# Altium integrated library NSC Amplifier.IntLib: 719 symbols (part 1 of 19)
Pins are listed as number, name and electrical type; pins without a type are passive.

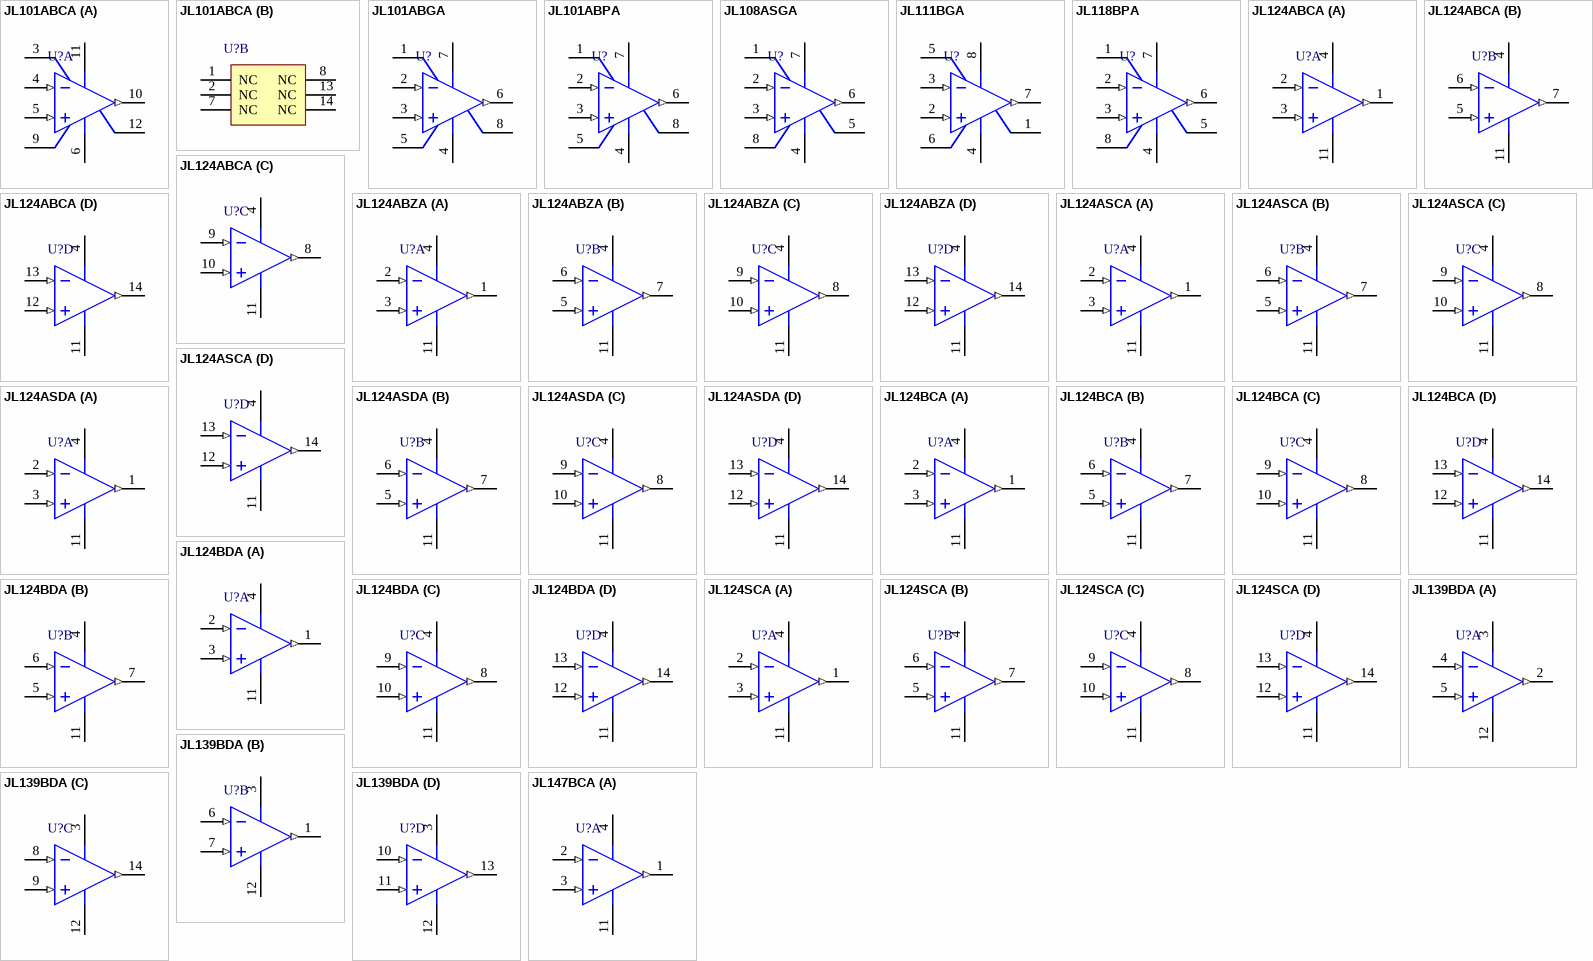
[diagram p0: symbols JL101ABCA to JL147BCA]

## JL101ABCA
designator U?
Operational Amplifier; PartNumber: JL101ABCA; Manufacturer: National Semiconductor; CompType: Amplifiers; PackageTopMarking: NS ZSSXXYYA*JM38510/10103BCA*27014 Q; Published: 4-Dec-2008; DatasheetVersion: Aug-2000; PackageVersion: revJ, Jul-2002; PackageReference: J14A; Publisher: Altium Limited; PackageDescription: Cerdip, .400 x .310in Body, 14 Lead, .300in Centers, .100in Pitch; RoHS: N; PinCount: 14; ComponentLink1Description: LM101A Datasheet; ComponentLink1URL: http://www.national.com/ds/LM/LM101A.pdf; ComponentLink2Description: LM101A Web Page; ComponentLink2URL: http://www.national.com/pf/LM/LM101A.html; ComponentLink3Description: J14A Package Page; ComponentLink3URL: http://www.national.com/packaging/folders/j14a.html
footprint J14A (DIP, 14-Leads, Row Spacing 7.62mm, Pitch 2.54mm, Body 19.56x6.73mm)
part A pins: 3 BAL/COMP, 4 IN- (in), 5 IN+ (in), 6 V- (power), 9 BAL, 10 OUT (out), 11 V+ (power), 12 COMP
part B pins: 1 NC, 2 NC, 7 NC, 8 NC, 13 NC, 14 NC

## JL101ABGA
designator U?
Operational Amplifier; PartNumber: JL101ABGA; Manufacturer: National Semiconductor; CompType: Amplifiers; PackageTopMarking: NS ZSSXXYYA 27014 Q*JM38510/10103BGA; Published: 4-Dec-2008; DatasheetVersion: Aug-2000; PackageVersion: revF, Jun-1995; PackageReference: H08C; Publisher: Altium Limited; PackageDescription: Metal Can, TO-99, 8 Lead, .200 Dia., P.C.; RoHS: N; PinCount: 8; Code_JEDEC: TO-99; ComponentLink1Description: LM101A Datasheet; ComponentLink1URL: http://www.national.com/ds/LM/LM101A.pdf; ComponentLink2Description: LM101A Web Page; ComponentLink2URL: http://www.national.com/pf/LM/LM101A.html; ComponentLink3Description: H08C Package Page; ComponentLink3URL: http://www.national.com/packaging/folders/h08c.html
footprint H08C (Can; 8 Leads; Pin Circle Dia. 5.08 mm; Lead Dia. 0.48 mm (max))
pins: 1 BAL/COMP, 2 IN- (in), 3 IN+ (in), 4 V- (power), 5 BAL, 6 OUT (out), 7 V+ (power), 8 COMP

## JL101ABPA
designator U?
Operational Amplifier; PartNumber: JL101ABPA; Manufacturer: National Semiconductor; CompType: Amplifiers; PackageTopMarking: NS JM38510*/10103BPA*27014 Q*ZSSXXYYA; Published: 4-Dec-2008; DatasheetVersion: Aug-2000; PackageVersion: revM, Jul-2002; PackageReference: J08A; Publisher: Altium Limited; PackageDescription: Cerdip, .400 x .310in Body, 8 Lead, .300in Centers, .100in Pitch; RoHS: N; PinCount: 8; ComponentLink1Description: LM101A Datasheet; ComponentLink1URL: http://www.national.com/ds/LM/LM101A.pdf; ComponentLink2Description: LM101A Web Page; ComponentLink2URL: http://www.national.com/pf/LM/LM101A.html; ComponentLink3Description: J08A Package Page; ComponentLink3URL: http://www.national.com/packaging/folders/j08a.html
footprint J08A (DIP, 8-Leads, Row Spacing 7.62mm, Pitch 2.54mm, Body 9.78x6.73mm)
pins: 1 BAL/COMP, 2 IN- (in), 3 IN+ (in), 4 V- (power), 5 BAL, 6 OUT (out), 7 V+ (power), 8 COMP

## JL108ASGA
designator U?
Operational Amplifiers; PartNumber: JL108ASGA; Manufacturer: National Semiconductor; PackageTopMarking: NS ZSSXXYYA 27014 Q*JM38510/10104SGA; Published: 4-Dec-2008; DatasheetVersion: May-1989; PackageVersion: revF, Jun-1995; PackageReference: H08C; Publisher: Altium Limited; PackageDescription: Metal Can, TO-99, 8 Lead, .200 Dia., P.C.; CompType: Amplifiers; RoHS: N; PinCount: 8; Code_JEDEC: TO-99; ComponentLink1Description: LM108A Datasheet; ComponentLink1URL: http://www.national.com/ds/LM/LM108A.pdf; ComponentLink2Description: LM108A Web Page; ComponentLink2URL: http://www.national.com/pf/LM/LM108A.html; ComponentLink3Description: H08C Package Page; ComponentLink3URL: http://www.national.com/packaging/folders/h08c.html
footprint H08C (Can; 8 Leads; Pin Circle Dia. 5.08 mm; Lead Dia. 0.48 mm (max))
pins: 1 COMP1, 2 IN- (in), 3 IN+ (in), 4 V- (power), 5 NC, 6 OUT (out), 7 V+ (power), 8 COMP2

## JL111BGA
designator U?
Voltage Comparator; PartNumber: JL111BGA; Manufacturer: National Semiconductor; CompType: Amplifiers; PackageTopMarking: NS ZSSXXYYA 27014 Q*JM38510/10304BGA; Published: 4-Dec-2008; DatasheetVersion: Jan-2001; PackageVersion: revF, Jun-1995; PackageReference: H08C; Publisher: Altium Limited; PackageDescription: Metal Can, TO-99, 8 Lead, .200 Dia., P.C.; RoHS: N; PinCount: 8; Code_JEDEC: TO-99; ComponentLink1Description: LM111 Datasheet; ComponentLink1URL: http://www.national.com/ds/LM/LM111.pdf; ComponentLink2Description: LM111 Web Page; ComponentLink2URL: http://www.national.com/pf/LM/LM111.html; ComponentLink3Description: H08C Package Page; ComponentLink3URL: http://www.national.com/packaging/folders/h08c.html
footprint H08C (Can; 8 Leads; Pin Circle Dia. 5.08 mm; Lead Dia. 0.48 mm (max))
pins: 1 GND (power), 2 IN+ (in), 3 IN- (in), 4 V- (power), 5 BAL, 6 BAL/STB, 7 OUT (out), 8 V+ (power)

## JL118BPA
designator U?
Operational Amplifier; PartNumber: JL118BPA; Manufacturer: National Semiconductor; CompType: Amplifiers; PackageTopMarking: NS JM38510*/10107BPA*27014 Q*ZSSXXYYA; Published: 4-Dec-2008; DatasheetVersion: Aug-2000; PackageVersion: revM, Jul-2002; PackageReference: J08A; Publisher: Altium Limited; PackageDescription: Cerdip, .400 x .310in Body, 8 Lead, .300in Centers, .100in Pitch; RoHS: N; PinCount: 8; ComponentLink1Description: LM118 Datasheet; ComponentLink1URL: http://www.national.com/ds/LM/LM118.pdf; ComponentLink2Description: LM118 Web Page; ComponentLink2URL: http://www.national.com/pf/LM/LM118.html; ComponentLink3Description: J08A Package Page; ComponentLink3URL: http://www.national.com/packaging/folders/j08a.html
footprint J08A (DIP, 8-Leads, Row Spacing 7.62mm, Pitch 2.54mm, Body 9.78x6.73mm)
pins: 1 BAL/COMP1, 2 IN- (in), 3 IN+ (in), 4 V- (power), 5 BAL/COMP3, 6 OUT (out), 7 V+ (power), 8 COMP2

## JL124ABCA
designator U?
Low Power Quad Operational Amplifier; PartNumber: JL124ABCA; Manufacturer: National Semiconductor; CompType: Amplifiers; PackageTopMarking: NS ZSSXXYYA*JM38510/11006BCA*27014 Q; Published: 4-Dec-2008; DatasheetVersion: Aug-2000; PackageVersion: revJ, Jul-2002; PackageReference: J14A; Publisher: Altium Limited; PackageDescription: Cerdip, .400 x .310in Body, 14 Lead, .300in Centers, .100in Pitch; RoHS: N; PinCount: 14; ComponentLink1Description: LM124 Datasheet; ComponentLink1URL: http://www.national.com/ds/LM/LM124.pdf; ComponentLink2Description: LM124 Web Page; ComponentLink2URL: http://www.national.com/pf/LM/LM124.html; ComponentLink3Description: J14A Package Page; ComponentLink3URL: http://www.national.com/packaging/folders/j14a.html
footprint J14A (DIP, 14-Leads, Row Spacing 7.62mm, Pitch 2.54mm, Body 19.56x6.73mm)
pins on every part: 4 V+ (power), 11 GND (power)
part A pins: 1 OUT1 (out), 2 IN1- (in), 3 IN1+ (in)
part B pins: 5 IN2+ (in), 6 IN2- (in), 7 OUT2 (out)
part C pins: 8 OUT3 (out), 9 IN3- (in), 10 IN3+ (in)
part D pins: 12 IN4+ (in), 13 IN4- (in), 14 OUT4 (out)

## JL124ABZA
designator U?
Low Power Quad Operational Amplifier; PartNumber: JL124ABZA; Manufacturer: National Semiconductor; CompType: Amplifiers; PackageTopMarking: NSZSSXXYYA*JM38510/*11006BZA*27014 Q; Published: 4-Dec-2008; DatasheetVersion: Aug-2000; PackageVersion: revD, Jul-2007; PackageReference: WG14A; Publisher: Altium Limited; PackageDescription: Cerpack, .390 x .250 x .070in, 14 Lead, .050in Pitch, Gull Wing; RoHS: N; PinCount: 14; ComponentLink1Description: LM124 Datasheet; ComponentLink1URL: http://www.national.com/ds/LM/LM124.pdf; ComponentLink2Description: LM124 Web Page; ComponentLink2URL: http://www.national.com/pf/LM/LM124.html; ComponentLink3Description: WG14A Package Page; ComponentLink3URL: http://www.national.com/packaging/folders/wg14a.html
footprint WG14A_N (CERPACK, 14-Leads, Body 9.9x6.5mm, Pitch 1.27mm, IPC Medium Density)
footprint WG14A_L (CERPACK, 14-Leads, Body 9.9x6.5mm, Pitch 1.27mm, IPC High Density)
footprint WG14A_M (CERPACK, 14-Leads, Body 9.9x6.5mm, Pitch 1.27mm, IPC Low Density)
pins on every part: 4 V+ (power), 11 GND (power)
part A pins: 1 OUT1 (out), 2 IN1- (in), 3 IN1+ (in)
part B pins: 5 IN2+ (in), 6 IN2- (in), 7 OUT2 (out)
part C pins: 8 OUT3 (out), 9 IN3- (in), 10 IN3+ (in)
part D pins: 12 IN4+ (in), 13 IN4- (in), 14 OUT4 (out)

## JL124ASCA
designator U?
Low Power Quad Operational Amplifier; PartNumber: JL124ASCA; Manufacturer: National Semiconductor; CompType: Amplifiers; PackageTopMarking: NSZSSXXYYA*JM38510/11006SCA*27014 Q; Published: 4-Dec-2008; DatasheetVersion: Aug-2000; PackageVersion: revJ, Jul-2002; PackageReference: J14A; Publisher: Altium Limited; PackageDescription: Cerdip, .400 x .310in Body, 14 Lead, .300in Centers, .100in Pitch; RoHS: N; PinCount: 14; ComponentLink1Description: LM124 Datasheet; ComponentLink1URL: http://www.national.com/ds/LM/LM124.pdf; ComponentLink2Description: LM124 Web Page; ComponentLink2URL: http://www.national.com/pf/LM/LM124.html; ComponentLink3Description: J14A Package Page; ComponentLink3URL: http://www.national.com/packaging/folders/j14a.html
footprint J14A (DIP, 14-Leads, Row Spacing 7.62mm, Pitch 2.54mm, Body 19.56x6.73mm)
pins on every part: 4 V+ (power), 11 GND (power)
part A pins: 1 OUT1 (out), 2 IN1- (in), 3 IN1+ (in)
part B pins: 5 IN2+ (in), 6 IN2- (in), 7 OUT2 (out)
part C pins: 8 OUT3 (out), 9 IN3- (in), 10 IN3+ (in)
part D pins: 12 IN4+ (in), 13 IN4- (in), 14 OUT4 (out)

## JL124ASDA
designator U?
Low Power Quad Operational Amplifier; PartNumber: JL124ASDA; Manufacturer: National Semiconductor; CompType: Amplifiers; PackageTopMarking: NSZSSXXYYA*JM38510/*11006SDA*27014 Q; Published: 4-Dec-2008; DatasheetVersion: Aug-2000; PackageVersion: revP, Jun-2004; PackageReference: W14B; Publisher: Altium Limited; PackageDescription: Cerpack, .390 x .250 x .070in Body, 14 Lead, .050in Pitch; RoHS: N; PinCount: 14; Code_JEDEC: MO-092-AB; ComponentLink1Description: LM124 Datasheet; ComponentLink1URL: http://www.national.com/ds/LM/LM124.pdf; ComponentLink2Description: LM124 Web Page; ComponentLink2URL: http://www.national.com/pf/LM/LM124.html; ComponentLink3Description: W14B Package Page; ComponentLink3URL: http://www.national.com/packaging/folders/w14b.html
footprint W14B (DFP; 14 Leads; Body 9.8 x 7.1 mm (LxW max); Pitch 1.27 mm)
pins on every part: 4 V+ (power), 11 GND (power)
part A pins: 1 OUT1 (out), 2 IN1- (in), 3 IN1+ (in)
part B pins: 5 IN2+ (in), 6 IN2- (in), 7 OUT2 (out)
part C pins: 8 OUT3 (out), 9 IN3- (in), 10 IN3+ (in)
part D pins: 12 IN4+ (in), 13 IN4- (in), 14 OUT4 (out)

## JL124BCA
designator U?
Low Power Quad Operational Amplifier; PartNumber: JL124BCA; Manufacturer: National Semiconductor; CompType: Amplifiers; PackageTopMarking: NS ZSSXXYYA*JM38510/11005BCA*27014 Q; Published: 4-Dec-2008; DatasheetVersion: Aug-2000; PackageVersion: revJ, Jul-2002; PackageReference: J14A; Publisher: Altium Limited; PackageDescription: Cerdip, .400 x .310in Body, 14 Lead, .300in Centers, .100in Pitch; RoHS: N; PinCount: 14; ComponentLink1Description: LM124 Datasheet; ComponentLink1URL: http://www.national.com/ds/LM/LM124.pdf; ComponentLink2Description: LM124 Web Page; ComponentLink2URL: http://www.national.com/pf/LM/LM124.html; ComponentLink3Description: J14A Package Page; ComponentLink3URL: http://www.national.com/packaging/folders/j14a.html
footprint J14A (DIP, 14-Leads, Row Spacing 7.62mm, Pitch 2.54mm, Body 19.56x6.73mm)
pins on every part: 4 V+ (power), 11 GND (power)
part A pins: 1 OUT1 (out), 2 IN1- (in), 3 IN1+ (in)
part B pins: 5 IN2+ (in), 6 IN2- (in), 7 OUT2 (out)
part C pins: 8 OUT3 (out), 9 IN3- (in), 10 IN3+ (in)
part D pins: 12 IN4+ (in), 13 IN4- (in), 14 OUT4 (out)

## JL124BDA
designator U?
Low Power Quad Operational Amplifier; PartNumber: JL124BDA; Manufacturer: National Semiconductor; CompType: Amplifiers; PackageTopMarking: NSZSSXXYYA*JM38510/*11005BDA*27014 Q; Published: 4-Dec-2008; DatasheetVersion: Aug-2000; PackageVersion: revP, Jun-2004; PackageReference: W14B; Publisher: Altium Limited; PackageDescription: Cerpack, .390 x .250 x .070in Body, 14 Lead, .050in Pitch; RoHS: N; PinCount: 14; Code_JEDEC: MO-092-AB; ComponentLink1Description: LM124 Datasheet; ComponentLink1URL: http://www.national.com/ds/LM/LM124.pdf; ComponentLink2Description: LM124 Web Page; ComponentLink2URL: http://www.national.com/pf/LM/LM124.html; ComponentLink3Description: W14B Package Page; ComponentLink3URL: http://www.national.com/packaging/folders/w14b.html
footprint W14B (DFP; 14 Leads; Body 9.8 x 7.1 mm (LxW max); Pitch 1.27 mm)
pins on every part: 4 V+ (power), 11 GND (power)
part A pins: 1 OUT1 (out), 2 IN1- (in), 3 IN1+ (in)
part B pins: 5 IN2+ (in), 6 IN2- (in), 7 OUT2 (out)
part C pins: 8 OUT3 (out), 9 IN3- (in), 10 IN3+ (in)
part D pins: 12 IN4+ (in), 13 IN4- (in), 14 OUT4 (out)

## JL124SCA
designator U?
Low Power Quad Operational Amplifier; PartNumber: JL124SCA; Manufacturer: National Semiconductor; CompType: Amplifiers; PackageTopMarking: NS ZSSXXYYA*JM38510/11005SCA*27014 Q; Published: 4-Dec-2008; DatasheetVersion: Aug-2000; PackageVersion: revJ, Jul-2002; PackageReference: J14A; Publisher: Altium Limited; PackageDescription: Cerdip, .400 x .310in Body, 14 Lead, .300in Centers, .100in Pitch; RoHS: N; PinCount: 14; ComponentLink1Description: LM124 Datasheet; ComponentLink1URL: http://www.national.com/ds/LM/LM124.pdf; ComponentLink2Description: LM124 Web Page; ComponentLink2URL: http://www.national.com/pf/LM/LM124.html; ComponentLink3Description: J14A Package Page; ComponentLink3URL: http://www.national.com/packaging/folders/j14a.html
footprint J14A (DIP, 14-Leads, Row Spacing 7.62mm, Pitch 2.54mm, Body 19.56x6.73mm)
pins on every part: 4 V+ (power), 11 GND (power)
part A pins: 1 OUT1 (out), 2 IN1- (in), 3 IN1+ (in)
part B pins: 5 IN2+ (in), 6 IN2- (in), 7 OUT2 (out)
part C pins: 8 OUT3 (out), 9 IN3- (in), 10 IN3+ (in)
part D pins: 12 IN4+ (in), 13 IN4- (in), 14 OUT4 (out)

## JL139BDA
designator U?
Low Power Low Offset Voltage Quad Comparator; PartNumber: JL139BDA; Manufacturer: National Semiconductor; CompType: Amplifiers; PackageTopMarking: NSZSSXXYYA*JM38510/*11201BDA*27014 Q; Published: 4-Dec-2008; DatasheetVersion: Mar-2004; PackageVersion: revP, Jun-2004; PackageReference: W14B; Publisher: Altium Limited; PackageDescription: Cerpack, .390 x .250 x .070in Body, 14 Lead, .050in Pitch; RoHS: N; PinCount: 14; Code_JEDEC: MO-092-AB; ComponentLink1Description: LM139 Datasheet; ComponentLink1URL: http://www.national.com/ds/LM/LM139.pdf; ComponentLink2Description: LM139 Web Page; ComponentLink2URL: http://www.national.com/pf/LM/LM139.html; ComponentLink3Description: W14B Package Page; ComponentLink3URL: http://www.national.com/packaging/folders/w14b.html
footprint W14B (DFP; 14 Leads; Body 9.8 x 7.1 mm (LxW max); Pitch 1.27 mm)
pins on every part: 3 V+ (power), 12 GND (power)
part A pins: 2 OUT1 (out), 4 IN1- (in), 5 IN1+ (in)
part B pins: 1 OUT2 (out), 6 IN2- (in), 7 IN2+ (in)
part C pins: 8 IN3- (in), 9 IN3+ (in), 14 OUT3 (out)
part D pins: 10 IN4- (in), 11 IN4+ (in), 13 OUT4 (out)

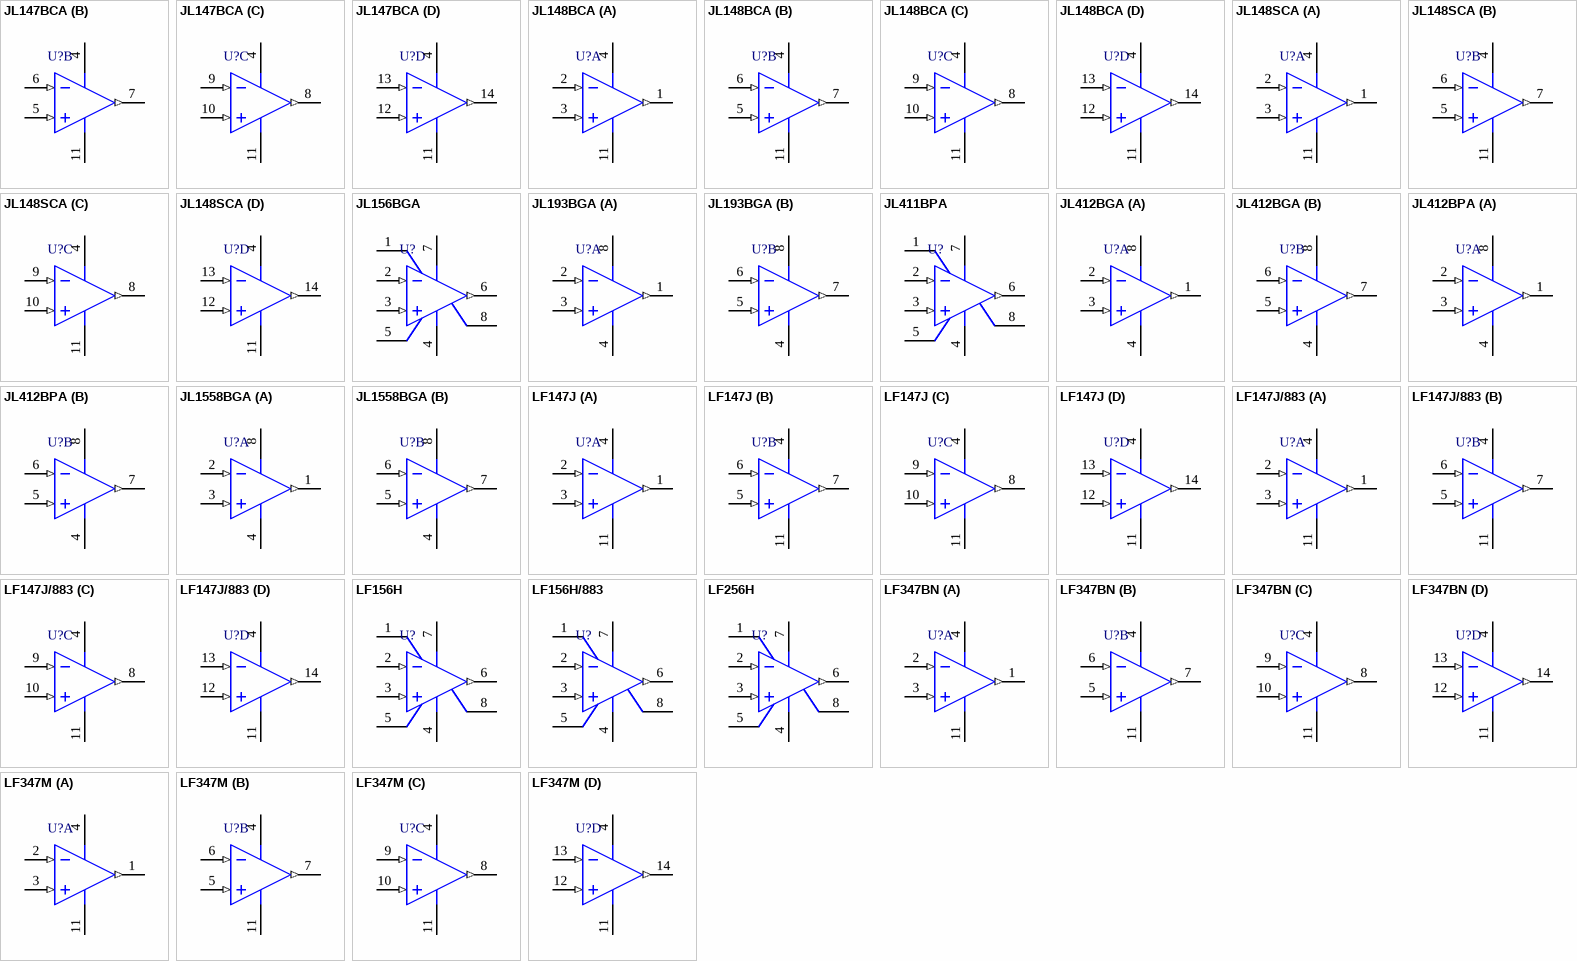
[diagram p1: symbols JL147BCA to LF347M]

## JL147BCA
designator U?
Wide Bandwidth Quad JFET Input Operational Amplifiers; PartNumber: JL147BCA; Manufacturer: National Semiconductor; PackageTopMarking: NS ZSSXXYYA*JM38510/11906BCA*27014 Q; Published: 4-Dec-2008; DatasheetVersion: Aug-2000; PackageVersion: revJ, Jul-2002; PackageReference: J14A; Publisher: Altium Limited; PackageDescription: Cerdip, .400 x .310in Body, 14 Lead, .300in Centers, .100in Pitch; CompType: Amplifiers; RoHS: N; PinCount: 14; ComponentLink1Description: LF147 Datasheet; ComponentLink1URL: http://www.national.com/ds/LF/LF147.pdf; ComponentLink2Description: LF147 Web Page; ComponentLink2URL: http://www.national.com/pf/LF/LF147.html; ComponentLink3Description: J14A Package Page; ComponentLink3URL: http://www.national.com/packaging/folders/j14a.html
footprint J14A (DIP, 14-Leads, Row Spacing 7.62mm, Pitch 2.54mm, Body 19.56x6.73mm)
pins on every part: 4 V+ (power), 11 V- (power)
part A pins: 1 OUT1 (out), 2 IN1- (in), 3 IN1+ (in)
part B pins: 5 IN2+ (in), 6 IN2- (in), 7 OUT2 (out)
part C pins: 8 OUT3 (out), 9 IN3- (in), 10 IN3+ (in)
part D pins: 12 IN4+ (in), 13 IN4- (in), 14 OUT4 (out)

## JL148BCA
designator U?
Series Quad 741 Op Amp; PartNumber: JL148BCA; Manufacturer: National Semiconductor; CompType: Amplifiers; PackageTopMarking: NS ZSSXXYYA*JM38510/11001BCA*27014 Q; MilaeroCode: CXX; Published: 4-Dec-2008; DatasheetVersion: Nov-2003; PackageVersion: revJ, Jul-2002; PackageReference: J14A; Publisher: Altium Limited; PackageDescription: Cerdip, .400 x .310in Body, 14 Lead, .300in Centers, .100in Pitch; RoHS: N; PinCount: 14; ComponentLink1Description: LM148 Datasheet; ComponentLink1URL: http://www.national.com/ds/LM/LM148.pdf; ComponentLink2Description: LM148 Web Page; ComponentLink2URL: http://www.national.com/pf/LM/LM148.html; ComponentLink3Description: J14A Package Page; ComponentLink3URL: http://www.national.com/packaging/folders/j14a.html
footprint J14A (DIP, 14-Leads, Row Spacing 7.62mm, Pitch 2.54mm, Body 19.56x6.73mm)
pins on every part: 4 V+ (power), 11 V- (power)
part A pins: 1 OUT1 (out), 2 IN1- (in), 3 IN1+ (in)
part B pins: 5 IN2+ (in), 6 IN2- (in), 7 OUT2 (out)
part C pins: 8 OUT3 (out), 9 IN3- (in), 10 IN3+ (in)
part D pins: 12 IN4+ (in), 13 IN4- (in), 14 OUT4 (out)

## JL148SCA
designator U?
Series Quad 741 Op Amp; PartNumber: JL148SCA; Manufacturer: National Semiconductor; CompType: Amplifiers; PackageTopMarking: NS ZSSXXYYA*JM38510/11001SCA*27014 Q; MilaeroCode: DXX; Published: 4-Dec-2008; DatasheetVersion: Nov-2003; PackageVersion: revJ, Jul-2002; PackageReference: J14A; Publisher: Altium Limited; PackageDescription: Cerdip, .400 x .310in Body, 14 Lead, .300in Centers, .100in Pitch; RoHS: N; PinCount: 14; ComponentLink1Description: LM148 Datasheet; ComponentLink1URL: http://www.national.com/ds/LM/LM148.pdf; ComponentLink2Description: LM148 Web Page; ComponentLink2URL: http://www.national.com/pf/LM/LM148.html; ComponentLink3Description: J14A Package Page; ComponentLink3URL: http://www.national.com/packaging/folders/j14a.html
footprint J14A (DIP, 14-Leads, Row Spacing 7.62mm, Pitch 2.54mm, Body 19.56x6.73mm)
pins on every part: 4 V+ (power), 11 V- (power)
part A pins: 1 OUT1 (out), 2 IN1- (in), 3 IN1+ (in)
part B pins: 5 IN2+ (in), 6 IN2- (in), 7 OUT2 (out)
part C pins: 8 OUT3 (out), 9 IN3- (in), 10 IN3+ (in)
part D pins: 12 IN4+ (in), 13 IN4- (in), 14 OUT4 (out)

## JL156BGA
designator U?
JFET Input Operational Amplifiers; PartNumber: JL156BGA; Manufacturer: National Semiconductor; PackageTopMarking: NS ZSSXXYYA 27014 Q*JM38510/11402BGA; Published: 4-Dec-2008; DatasheetVersion: Dec-2001; PackageVersion: revF, Jun-1995; PackageReference: H08C; Publisher: Altium Limited; PackageDescription: Metal Can, TO-99, 8 Lead, .200 Dia., P.C.; CompType: Amplifiers; RoHS: N; PinCount: 8; Code_JEDEC: TO-99; ComponentLink1Description: LF156 Datasheet; ComponentLink1URL: http://www.national.com/ds/LF/LF156.pdf; ComponentLink2Description: LF156 Web Page; ComponentLink2URL: http://www.national.com/pf/LF/LF156.html; ComponentLink3Description: H08C Package Page; ComponentLink3URL: http://www.national.com/packaging/folders/h08c.html
footprint H08C (Can; 8 Leads; Pin Circle Dia. 5.08 mm; Lead Dia. 0.48 mm (max))
pins: 1 BAL, 2 IN- (in), 3 IN+ (in), 4 V- (power), 5 BAL, 6 OUT (out), 7 V+ (power), 8 NC

## JL193BGA
designator U?
Low Power Low Offset Voltage Dual Comparator; PartNumber: JL193BGA; Manufacturer: National Semiconductor; CompType: Amplifiers; PackageTopMarking: NS ZSSXXYYA 27014 Q*JM38510/11202BGA; Published: 4-Dec-2008; DatasheetVersion: Aug-2002; PackageVersion: revF, Jun-1995; PackageReference: H08C; Publisher: Altium Limited; PackageDescription: Metal Can, TO-99, 8 Lead, .200 Dia., P.C.; RoHS: N; PinCount: 8; Code_JEDEC: TO-99; ComponentLink1Description: LM193 Datasheet; ComponentLink1URL: http://www.national.com/ds/LM/LM193.pdf; ComponentLink2Description: LM193 Web Page; ComponentLink2URL: http://www.national.com/pf/LM/LM193.html; ComponentLink3Description: H08C Package Page; ComponentLink3URL: http://www.national.com/packaging/folders/h08c.html
footprint H08C (Can; 8 Leads; Pin Circle Dia. 5.08 mm; Lead Dia. 0.48 mm (max))
pins on every part: 4 GND (power), 8 V+ (power)
part A pins: 1 OUTA (out), 2 INA- (in), 3 INA+ (in)
part B pins: 5 INB+ (in), 6 INB- (in), 7 OUTB (out)

## JL411BPA
designator U?
Low Offset, Low Drift JFET Input Operational Amplifier; PartNumber: JL411BPA; Manufacturer: National Semiconductor; CompType: Amplifiers; PackageTopMarking: NS JM38510*/11904BPA*27014 Q*ZSSXXYYA; MilaeroCode: CXX; Published: 4-Dec-2008; DatasheetVersion: Oct-2005; PackageVersion: revM, Jul-2002; PackageReference: J08A; Publisher: Altium Limited; PackageDescription: Cerdip, .400 x .310in Body, 8 Lead, .300in Centers, .100in Pitch; RoHS: N; PinCount: 8; ComponentLink1Description: LF411JAN Datasheet; ComponentLink1URL: http://www.national.com/ds/LF/LF411JAN.pdf; ComponentLink2Description: LF411 Web Page; ComponentLink2URL: http://www.national.com/pf/LF/LF411.html; ComponentLink3Description: J08A Package Page; ComponentLink3URL: http://www.national.com/packaging/folders/j08a.html
footprint J08A (DIP, 8-Leads, Row Spacing 7.62mm, Pitch 2.54mm, Body 9.78x6.73mm)
pins: 1 BAL, 2 IN- (in), 3 IN+ (in), 4 V- (power), 5 BAL, 6 OUT (out), 7 V+ (power), 8 NC

## JL412BGA
designator U?
Low Offset, Low Drift Dual JFET Input Operational Amplifier; PartNumber: JL412BGA; Manufacturer: National Semiconductor; CompType: Amplifiers; PackageTopMarking: NS ZSSXXYYA 27014 Q*JM38510/11905BGA; Published: 4-Dec-2008; DatasheetVersion: Aug-2000; PackageVersion: revF, Jun-1995; PackageReference: H08C; Publisher: Altium Limited; PackageDescription: Metal Can, TO-99, 8 Lead, .200 Dia., P.C.; RoHS: N; PinCount: 8; Code_JEDEC: TO-99; ComponentLink1Description: LF412 Datasheet; ComponentLink1URL: http://www.national.com/ds/LF/LF412.pdf; ComponentLink2Description: LF412 Web Page; ComponentLink2URL: http://www.national.com/pf/LF/LF412.html; ComponentLink3Description: H08C Package Page; ComponentLink3URL: http://www.national.com/packaging/folders/h08c.html
footprint H08C (Can; 8 Leads; Pin Circle Dia. 5.08 mm; Lead Dia. 0.48 mm (max))
pins on every part: 4 V- (power), 8 V+ (power)
part A pins: 1 OUTA (out), 2 INA- (in), 3 INA+ (in)
part B pins: 5 INB+ (in), 6 INB- (in), 7 OUTB (out)

## JL412BPA
designator U?
Low Offset, Low Drift Dual JFET Input Operational Amplifier; PartNumber: JL412BPA; Manufacturer: National Semiconductor; CompType: Amplifiers; PackageTopMarking: NS JM38510*/11905BPA*27014 Q*ZSSXXYYA; Published: 4-Dec-2008; DatasheetVersion: Aug-2000; PackageVersion: revM, Jul-2002; PackageReference: J08A; Publisher: Altium Limited; PackageDescription: Cerdip, .400 x .310in Body, 8 Lead, .300in Centers, .100in Pitch; RoHS: N; PinCount: 8; ComponentLink1Description: LF412 Datasheet; ComponentLink1URL: http://www.national.com/ds/LF/LF412.pdf; ComponentLink2Description: LF412 Web Page; ComponentLink2URL: http://www.national.com/pf/LF/LF412.html; ComponentLink3Description: J08A Package Page; ComponentLink3URL: http://www.national.com/packaging/folders/j08a.html
footprint J08A (DIP, 8-Leads, Row Spacing 7.62mm, Pitch 2.54mm, Body 9.78x6.73mm)
pins on every part: 4 V- (power), 8 V+ (power)
part A pins: 1 OUTA (out), 2 INA- (in), 3 INA+ (in)
part B pins: 5 INB+ (in), 6 INB- (in), 7 OUTB (out)

## JL1558BGA
designator U?
Dual Operational Amplifier; PartNumber: JL1558BGA; Manufacturer: National Semiconductor; CompType: Amplifiers; PackageTopMarking: NS ZSSXXYYA 27014 Q*JM38510/10108BGA; Published: 4-Dec-2008; DatasheetVersion: Aug-2003; PackageVersion: revF, Jun-1995; PackageReference: H08C; Publisher: Altium Limited; PackageDescription: Metal Can, TO-99, 8 Lead, .200 Dia., P.C.; RoHS: N; PinCount: 8; Code_JEDEC: TO-99; ComponentLink1Description: LM1558 Datasheet; ComponentLink1URL: http://www.national.com/ds/LM/LM1558.pdf; ComponentLink2Description: LM1558 Web Page; ComponentLink2URL: http://www.national.com/pf/LM/LM1558.html; ComponentLink3Description: H08C Package Page; ComponentLink3URL: http://www.national.com/packaging/folders/h08c.html
footprint H08C (Can; 8 Leads; Pin Circle Dia. 5.08 mm; Lead Dia. 0.48 mm (max))
pins on every part: 4 V- (power), 8 V+ (power)
part A pins: 1 OUTA (out), 2 INA- (in), 3 INA+ (in)
part B pins: 5 INB+ (in), 6 INB- (in), 7 OUTB (out)

## LF147J
designator U?
Wide Bandwidth Quad JFET Input Operational Amplifiers; PartNumber: LF147J; Manufacturer: National Semiconductor; PackageTopMarking: NSUZXYYTT*LF147J; Published: 4-Dec-2008; DatasheetVersion: Aug-2000; PackageVersion: revJ, Jul-2002; PackageReference: J14A; Publisher: Altium Limited; PackageDescription: Cerdip, .400 x .310in Body, 14 Lead, .300in Centers, .100in Pitch; CompType: Amplifiers; RoHS: N; PinCount: 14; DigiKeyPartNumber: LF147J-ND; ComponentLink1Description: LF147 Datasheet; ComponentLink1URL: http://www.national.com/ds/LF/LF147.pdf; ComponentLink2Description: LF147 Web Page; ComponentLink2URL: http://www.national.com/pf/LF/LF147.html; ComponentLink3Description: J14A Package Page; ComponentLink3URL: http://www.national.com/packaging/folders/j14a.html
footprint J14A (DIP, 14-Leads, Row Spacing 7.62mm, Pitch 2.54mm, Body 19.56x6.73mm)
pins on every part: 4 V+ (power), 11 V- (power)
part A pins: 1 OUT1 (out), 2 IN1- (in), 3 IN1+ (in)
part B pins: 5 IN2+ (in), 6 IN2- (in), 7 OUT2 (out)
part C pins: 8 OUT3 (out), 9 IN3- (in), 10 IN3+ (in)
part D pins: 12 IN4+ (in), 13 IN4- (in), 14 OUT4 (out)

## LF147J/883
designator U?
Wide Bandwidth Quad JFET Input Operational Amplifiers; PartNumber: LF147J/883; Manufacturer: National Semiconductor; PackageTopMarking: NSZSSXXYYA*LF147J/883 Q; Published: 4-Dec-2008; DatasheetVersion: Aug-2000; PackageVersion: revJ, Jul-2002; PackageReference: J14A; Publisher: Altium Limited; PackageDescription: Cerdip, .400 x .310in Body, 14 Lead, .300in Centers, .100in Pitch; CompType: Amplifiers; RoHS: N; PinCount: 14; ComponentLink1Description: LF147 Datasheet; ComponentLink1URL: http://www.national.com/ds/LF/LF147.pdf; ComponentLink2Description: LF147 Web Page; ComponentLink2URL: http://www.national.com/pf/LF/LF147.html; ComponentLink3Description: J14A Package Page; ComponentLink3URL: http://www.national.com/packaging/folders/j14a.html
footprint J14A (DIP, 14-Leads, Row Spacing 7.62mm, Pitch 2.54mm, Body 19.56x6.73mm)
pins on every part: 4 V+ (power), 11 V- (power)
part A pins: 1 OUT1 (out), 2 IN1- (in), 3 IN1+ (in)
part B pins: 5 IN2+ (in), 6 IN2- (in), 7 OUT2 (out)
part C pins: 8 OUT3 (out), 9 IN3- (in), 10 IN3+ (in)
part D pins: 12 IN4+ (in), 13 IN4- (in), 14 OUT4 (out)

## LF156H
designator U?
JFET Input Operational Amplifiers; PartNumber: LF156H; Manufacturer: National Semiconductor; PackageTopMarking: NSZXYTTE# LF156H; Published: 4-Dec-2008; LatestRevisionDate: 13-Jan-2009; LatestRevisionNote: Sim Model Added.; DatasheetVersion: Dec-2001; PackageVersion: revF, Jun-1995; PackageReference: H08C; Publisher: Altium Limited; PackageDescription: Metal Can, TO-99, 8 Lead, .200 Dia., P.C.; CompType: Amplifiers; RoHS: O; PinCount: 8; DigiKeyPartNumber: LF156H-ND; Code_JEDEC: TO-99; ComponentLink1Description: LF156 Datasheet; ComponentLink1URL: http://www.national.com/ds/LF/LF156.pdf; ComponentLink2Description: LF156 Web Page; ComponentLink2URL: http://www.national.com/pf/LF/LF156.html; ComponentLink3Description: H08C Package Page; ComponentLink3URL: http://www.national.com/packaging/folders/h08c.html
footprint H08C (Can; 8 Leads; Pin Circle Dia. 5.08 mm; Lead Dia. 0.48 mm (max))
simulation model LF156 (SUBCKT)
pins: 1 BAL, 2 IN- (in), 3 IN+ (in), 4 V- (power), 5 BAL, 6 OUT (out), 7 V+ (power), 8 NC

## LF156H/883
designator U?
JFET Input Operational Amplifiers; PartNumber: LF156; Manufacturer: National Semiconductor; PackageTopMarking: NSZSSXXYYA LF156H/883 Q; Published: 4-Dec-2008; LatestRevisionDate: 13-Jan-2009; LatestRevisionNote: Sim Model Added.; DatasheetVersion: Dec-2001; PackageVersion: revF, Jun-1995; PackageReference: H08C; Publisher: Altium Limited; PackageDescription: Metal Can, TO-99, 8 Lead, .200 Dia., P.C.; CompType: Amplifiers; RoHS: N; PinCount: 8; Code_JEDEC: TO-99; ComponentLink1Description: LF156 Datasheet; ComponentLink1URL: http://www.national.com/ds/LF/LF156.pdf; ComponentLink2Description: LF156 Web Page; ComponentLink2URL: http://www.national.com/pf/LF/LF156.html; ComponentLink3Description: H08C Package Page; ComponentLink3URL: http://www.national.com/packaging/folders/h08c.html
footprint H08C (Can; 8 Leads; Pin Circle Dia. 5.08 mm; Lead Dia. 0.48 mm (max))
simulation model LF156 (SUBCKT)
pins: 1 BAL, 2 IN- (in), 3 IN+ (in), 4 V- (power), 5 BAL, 6 OUT (out), 7 V+ (power), 8 NC

## LF256H
designator U?
JFET Input Operational Amplifier; PartNumber: LF256H; Manufacturer: National Semiconductor; CompType: Amplifiers; PackageTopMarking: NSZXYTTE# LF256H; Published: 4-Dec-2008; LatestRevisionDate: 13-Jan-2009; LatestRevisionNote: Sim Model Added.; DatasheetVersion: Dec-2001; PackageVersion: revF, Jun-1995; PackageReference: H08C; Publisher: Altium Limited; PackageDescription: Metal Can, TO-99, 8 Lead, .200 Dia., P.C.; RoHS: O; PinCount: 8; DigiKeyPartNumber: LF256H-ND; Code_JEDEC: TO-99; ComponentLink1Description: LF256 Datasheet; ComponentLink1URL: http://www.national.com/ds/LF/LF256.pdf; ComponentLink2Description: LF256 Web Page; ComponentLink2URL: http://www.national.com/pf/LF/LF256.html; ComponentLink3Description: H08C Package Page; ComponentLink3URL: http://www.national.com/packaging/folders/h08c.html
footprint H08C (Can; 8 Leads; Pin Circle Dia. 5.08 mm; Lead Dia. 0.48 mm (max))
simulation model LF256 (SUBCKT)
pins: 1 BAL, 2 IN- (in), 3 IN+ (in), 4 V- (power), 5 BAL, 6 OUT (out), 7 V+ (power), 8 NC

## LF347BN
designator U?
Wide Bandwidth Quad JFET Input Operational Amplifiers; PartNumber: LF347BN; Manufacturer: National Semiconductor; PackageTopMarking: NSUZXYYTTE#*LF347BN; Published: 4-Dec-2008; DatasheetVersion: Aug-2000; PackageVersion: revG, May-2006; PackageReference: N14A; Publisher: Altium Limited; PackageDescription: MDIP, .750 x .250 x.130in, 14 Lead, .100in Pitch; CompType: Amplifiers; RoHS: O; PinCount: 14; DigiKeyPartNumber: LF347BN-ND; Code_JEDEC: MS-001-AA; ComponentLink1Description: LF347 Datasheet; ComponentLink1URL: http://www.national.com/ds/LF/LF347.pdf; ComponentLink2Description: LF347 Web Page; ComponentLink2URL: http://www.national.com/pf/LF/LF347.html; ComponentLink3Description: N14A Package Page; ComponentLink3URL: http://www.national.com/packaging/folders/n14a.html
footprint N14A (DIP, 14-Leads, Row Spacing 7.62mm, Pitch 2.54mm, Body 19.56x6.35mm)
pins on every part: 4 V+ (power), 11 V- (power)
part A pins: 1 OUT1 (out), 2 IN1- (in), 3 IN1+ (in)
part B pins: 5 IN2+ (in), 6 IN2- (in), 7 OUT2 (out)
part C pins: 8 OUT3 (out), 9 IN3- (in), 10 IN3+ (in)
part D pins: 12 IN4+ (in), 13 IN4- (in), 14 OUT4 (out)

## LF347M
designator U?
Wide Bandwidth Quad JFET Input Operational Amplifiers; PartNumber: LF347M; Manufacturer: National Semiconductor; PackageTopMarking: NSUZXYTT*LF347M; Published: 4-Dec-2008; DatasheetVersion: Aug-2000; PackageVersion: revJ, Jan-1996; PackageReference: M14A; Publisher: Altium Limited; PackageDescription: Molded Package S.O., .150in Wide, 14 Lead; CompType: Amplifiers; RoHS: O; PinCount: 14; DigiKeyPartNumber: LF347M-ND; Code_JEDEC: MS-012AB; Code_IPC: SOIC127P600-14; ComponentLink1Description: LF347 Datasheet; ComponentLink1URL: http://www.national.com/ds/LF/LF347.pdf; ComponentLink2Description: LF347 Web Page; ComponentLink2URL: http://www.national.com/pf/LF/LF347.html; ComponentLink3Description: M14A Package Page; ComponentLink3URL: http://www.national.com/packaging/folders/m14a.html
footprint M14A_N (SOIC, 14-Leads, Body 8.6x3.9mm, Pitch 1.27mm, IPC Medium Density)
footprint M14A_L (SOIC, 14-Leads, Body 8.6x3.9mm, Pitch 1.27mm, IPC High Density)
footprint M14A_M (SOIC, 14-Leads, Body 8.6x3.9mm, Pitch 1.27mm, IPC Low Density)
pins on every part: 4 V+ (power), 11 V- (power)
part A pins: 1 OUT1 (out), 2 IN1- (in), 3 IN1+ (in)
part B pins: 5 IN2+ (in), 6 IN2- (in), 7 OUT2 (out)
part C pins: 8 OUT3 (out), 9 IN3- (in), 10 IN3+ (in)
part D pins: 12 IN4+ (in), 13 IN4- (in), 14 OUT4 (out)

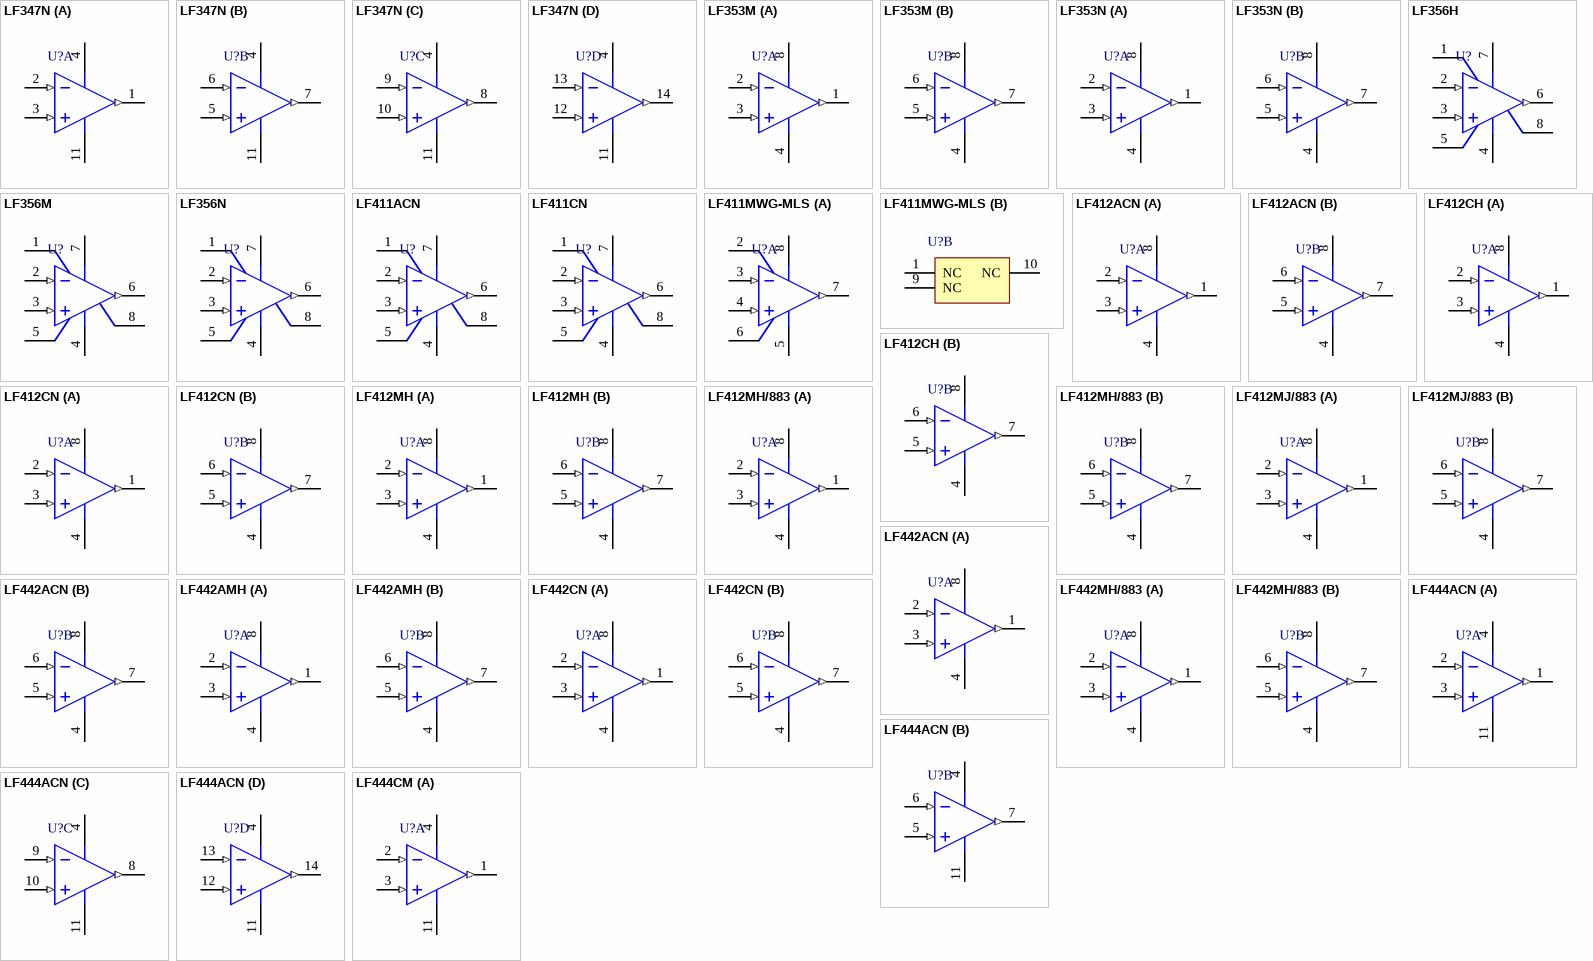
[diagram p2: symbols LF347N to LF444CM]

## LF347N
designator U?
Wide Bandwidth Quad JFET Input Operational Amplifiers; PartNumber: LF347N; Manufacturer: National Semiconductor; PackageTopMarking: NSUZXYYTTE#*LF347N; Published: 4-Dec-2008; DatasheetVersion: Aug-2000; PackageVersion: revG, May-2006; PackageReference: N14A; Publisher: Altium Limited; PackageDescription: MDIP, .750 x .250 x.130in, 14 Lead, .100in Pitch; CompType: Amplifiers; RoHS: O; PinCount: 14; DigiKeyPartNumber: LF347NNS-ND; Code_JEDEC: MS-001-AA; ComponentLink1Description: LF347 Datasheet; ComponentLink1URL: http://www.national.com/ds/LF/LF347.pdf; ComponentLink2Description: LF347 Web Page; ComponentLink2URL: http://www.national.com/pf/LF/LF347.html; ComponentLink3Description: N14A Package Page; ComponentLink3URL: http://www.national.com/packaging/folders/n14a.html
footprint N14A (DIP, 14-Leads, Row Spacing 7.62mm, Pitch 2.54mm, Body 19.56x6.35mm)
pins on every part: 4 V+ (power), 11 V- (power)
part A pins: 1 OUT1 (out), 2 IN1- (in), 3 IN1+ (in)
part B pins: 5 IN2+ (in), 6 IN2- (in), 7 OUT2 (out)
part C pins: 8 OUT3 (out), 9 IN3- (in), 10 IN3+ (in)
part D pins: 12 IN4+ (in), 13 IN4- (in), 14 OUT4 (out)

## LF353M
designator U?
Wide Bandwidth Dual JFET Input Operational Amplifier; PartNumber: LF353M; Manufacturer: National Semiconductor; CompType: Amplifiers; PackageTopMarking: NSZXTT*LF353*M; Published: 4-Dec-2008; LatestRevisionDate: 13-Jan-2009; LatestRevisionNote: Sim Model Added.; DatasheetVersion: Dec-2003; PackageVersion: revL, Sep-2006; PackageReference: M08A; Publisher: Altium Limited; PackageDescription: SOIC Narrow, 4.9 x 3.9 x 1.45mm, 8 Lead, 1.27mm Pitch; RoHS: O; PinCount: 8; DigiKeyPartNumber: LF353MXCT-ND; Code_JEDEC: MS-012-AA; Code_IPC: SOIC127P600-8; ComponentLink1Description: LF353 Datasheet; ComponentLink1URL: http://www.national.com/ds/LF/LF353.pdf; ComponentLink2Description: LF353 Web Page; ComponentLink2URL: http://www.national.com/pf/LF/LF353.html; ComponentLink3Description: M08A Package Page; ComponentLink3URL: http://www.national.com/packaging/folders/m08a.html
footprint M08A_N (SOIC, 8-Leads, Body 4.9x3.9mm, Pitch 1.27mm, IPC Medium Density)
footprint M08A_L (SOIC, 8-Leads, Body 4.9x3.9mm, Pitch 1.27mm, IPC High Density)
footprint M08A_M (SOIC, 8-Leads, Body 4.9x3.9mm, Pitch 1.27mm, IPC Low Density)
simulation model LF353 (SUBCKT)
pins on every part: 4 V- (power), 8 V+ (power)
part A pins: 1 OUTA (out), 2 INA- (in), 3 INA+ (in)
part B pins: 5 INB+ (in), 6 INB- (in), 7 OUTB (out)

## LF353N
designator U?
Wide Bandwidth Dual JFET Input Operational Amplifier; PartNumber: LF353N; Manufacturer: National Semiconductor; CompType: Amplifiers; PackageTopMarking: NSUZXYTT*LF*353N; Published: 4-Dec-2008; LatestRevisionDate: 13-Jan-2009; LatestRevisionNote: Sim Model Added.; DatasheetVersion: Dec-2003; PackageVersion: revG, May-2006; PackageReference: N08E; Publisher: Altium Limited; PackageDescription: MDIP, .365 x .250 x .130in, 8 Lead, .100in Pitch; RoHS: O; PinCount: 8; DigiKeyPartNumber: LF353NNS-ND; Code_JEDEC: MS-001-BA; ComponentLink1Description: LF353 Datasheet; ComponentLink1URL: http://www.national.com/ds/LF/LF353.pdf; ComponentLink2Description: LF353 Web Page; ComponentLink2URL: http://www.national.com/pf/LF/LF353.html; ComponentLink3Description: N08E Package Page; ComponentLink3URL: http://www.national.com/packaging/folders/n08e.html
footprint N08E (DIP, 8-Leads, Row Spacing 7.62mm, Pitch 2.54mm, Body 9.91x6.35mm)
simulation model LF353 (SUBCKT)
pins on every part: 4 V- (power), 8 V+ (power)
part A pins: 1 OUTA (out), 2 INA- (in), 3 INA+ (in)
part B pins: 5 INB+ (in), 6 INB- (in), 7 OUTB (out)

## LF356H
designator U?
JFET Input Operational Amplifiers; PartNumber: LF356H; Manufacturer: National Semiconductor; PackageTopMarking: NSZXYTTE# LF356H; Published: 4-Dec-2008; LatestRevisionDate: 13-Jan-2009; LatestRevisionNote: Sim Model Added.; DatasheetVersion: Dec-2001; PackageVersion: revF, Jun-1995; PackageReference: H08C; Publisher: Altium Limited; PackageDescription: Metal Can, TO-99, 8 Lead, .200 Dia., P.C.; CompType: Amplifiers; RoHS: O; PinCount: 8; DigiKeyPartNumber: LF356H-ND; Code_JEDEC: TO-99; ComponentLink1Description: LF356 Datasheet; ComponentLink1URL: http://www.national.com/ds/LF/LF356.pdf; ComponentLink2Description: LF356 Web Page; ComponentLink2URL: http://www.national.com/pf/LF/LF356.html; ComponentLink3Description: H08C Package Page; ComponentLink3URL: http://www.national.com/packaging/folders/h08c.html
footprint H08C (Can; 8 Leads; Pin Circle Dia. 5.08 mm; Lead Dia. 0.48 mm (max))
simulation model LF356 (SUBCKT)
pins: 1 BAL, 2 IN- (in), 3 IN+ (in), 4 V- (power), 5 BAL, 6 OUT (out), 7 V+ (power), 8 NC

## LF356M
designator U?
JFET Input Operational Amplifiers; PartNumber: LF356M; Manufacturer: National Semiconductor; PackageTopMarking: NSZXTT*LF356*M; Published: 4-Dec-2008; LatestRevisionDate: 13-Jan-2009; LatestRevisionNote: Sim Model Added.; DatasheetVersion: Dec-2001; PackageVersion: revL, Sep-2006; PackageReference: M08A; Publisher: Altium Limited; PackageDescription: SOIC Narrow, 4.9 x 3.9 x 1.45mm, 8 Lead, 1.27mm Pitch; CompType: Amplifiers; RoHS: O; PinCount: 8; DigiKeyPartNumber: LF356M-ND; Code_JEDEC: MS-012-AA; Code_IPC: SOIC127P600-8; ComponentLink1Description: LF356 Datasheet; ComponentLink1URL: http://www.national.com/ds/LF/LF356.pdf; ComponentLink2Description: LF356 Web Page; ComponentLink2URL: http://www.national.com/pf/LF/LF356.html; ComponentLink3Description: M08A Package Page; ComponentLink3URL: http://www.national.com/packaging/folders/m08a.html
footprint M08A_N (SOIC, 8-Leads, Body 4.9x3.9mm, Pitch 1.27mm, IPC Medium Density)
footprint M08A_L (SOIC, 8-Leads, Body 4.9x3.9mm, Pitch 1.27mm, IPC High Density)
footprint M08A_M (SOIC, 8-Leads, Body 4.9x3.9mm, Pitch 1.27mm, IPC Low Density)
simulation model LF356 (SUBCKT)
pins: 1 BAL, 2 IN- (in), 3 IN+ (in), 4 V- (power), 5 BAL, 6 OUT (out), 7 V+ (power), 8 NC

## LF356N
designator U?
JFET Input Operational Amplifiers; PartNumber: LF356N; Manufacturer: National Semiconductor; PackageTopMarking: NSUZXYTT*LF*356N; Published: 4-Dec-2008; LatestRevisionDate: 13-Jan-2009; LatestRevisionNote: Sim Model Added.; DatasheetVersion: Dec-2001; PackageVersion: revG, May-2006; PackageReference: N08E; Publisher: Altium Limited; PackageDescription: MDIP, .365 x .250 x .130in, 8 Lead, .100in Pitch; CompType: Amplifiers; RoHS: O; PinCount: 8; DigiKeyPartNumber: LF356N-ND; Code_JEDEC: MS-001-BA; ComponentLink1Description: LF356 Datasheet; ComponentLink1URL: http://www.national.com/ds/LF/LF356.pdf; ComponentLink2Description: LF356 Web Page; ComponentLink2URL: http://www.national.com/pf/LF/LF356.html; ComponentLink3Description: N08E Package Page; ComponentLink3URL: http://www.national.com/packaging/folders/n08e.html
footprint N08E (DIP, 8-Leads, Row Spacing 7.62mm, Pitch 2.54mm, Body 9.91x6.35mm)
simulation model LF356 (SUBCKT)
pins: 1 BAL, 2 IN- (in), 3 IN+ (in), 4 V- (power), 5 BAL, 6 OUT (out), 7 V+ (power), 8 NC

## LF411ACN
designator U?
Low Offset, Low Drift JFET Input Operational Amplifier; PartNumber: LF411ACN; Manufacturer: National Semiconductor; CompType: Amplifiers; PackageTopMarking: NSUZXYTT*LF*411ACN; Published: 4-Dec-2008; LatestRevisionDate: 13-Jan-2009; LatestRevisionNote: Sim Model Added.; DatasheetVersion: Aug-2000; PackageVersion: revG, May-2006; PackageReference: N08E; Publisher: Altium Limited; PackageDescription: MDIP, .365 x .250 x .130in, 8 Lead, .100in Pitch; RoHS: O; PinCount: 8; DigiKeyPartNumber: LF411ACN-ND; Code_JEDEC: MS-001-BA; ComponentLink1Description: LF411 Datasheet; ComponentLink1URL: http://www.national.com/ds/LF/LF411.pdf; ComponentLink2Description: LF411 Web Page; ComponentLink2URL: http://www.national.com/pf/LF/LF411.html; ComponentLink3Description: N08E Package Page; ComponentLink3URL: http://www.national.com/packaging/folders/n08e.html
footprint N08E (DIP, 8-Leads, Row Spacing 7.62mm, Pitch 2.54mm, Body 9.91x6.35mm)
simulation model LF411 (SUBCKT)
pins: 1 BAL, 2 IN- (in), 3 IN+ (in), 4 V- (power), 5 BAL, 6 OUT (out), 7 V+ (power), 8 NC

## LF411CN
designator U?
Low Offset, Low Drift JFET Input Operational Amplifier; PartNumber: LF411CN; Manufacturer: National Semiconductor; CompType: Amplifiers; PackageTopMarking: NSUZXYTT*LF*411CN; Published: 4-Dec-2008; LatestRevisionDate: 13-Jan-2009; LatestRevisionNote: Sim Model Added.; DatasheetVersion: Aug-2000; PackageVersion: revG, May-2006; PackageReference: N08E; Publisher: Altium Limited; PackageDescription: MDIP, .365 x .250 x .130in, 8 Lead, .100in Pitch; RoHS: O; PinCount: 8; DigiKeyPartNumber: LF411CN-ND; Code_JEDEC: MS-001-BA; ComponentLink1Description: LF411 Datasheet; ComponentLink1URL: http://www.national.com/ds/LF/LF411.pdf; ComponentLink2Description: LF411 Web Page; ComponentLink2URL: http://www.national.com/pf/LF/LF411.html; ComponentLink3Description: N08E Package Page; ComponentLink3URL: http://www.national.com/packaging/folders/n08e.html
footprint N08E (DIP, 8-Leads, Row Spacing 7.62mm, Pitch 2.54mm, Body 9.91x6.35mm)
simulation model LF411 (SUBCKT)
pins: 1 BAL, 2 IN- (in), 3 IN+ (in), 4 V- (power), 5 BAL, 6 OUT (out), 7 V+ (power), 8 NC

## LF411MWG-MLS
designator U?
Low Offset, Low Drift JFET Input Operational Amplifier; PartNumber: LF411MWG-MLS; Manufacturer: National Semiconductor; CompType: Amplifiers; PackageTopMarking: NS*ZSSXXYYA*LF411MWG*MLS; MilaeroCode: DXX; Published: 4-Dec-2008; DatasheetVersion: May-2007; PackageVersion: revF, Oct-2008; PackageReference: WG10A; Publisher: Altium Limited; PackageDescription: Cerpack, .270 x .241 x .070in, 10 Lead, .050in Pitch, Gull Wing; RoHS: N; PinCount: 10; ComponentLink1Description: LF411QML Datasheet; ComponentLink1URL: http://www.national.com/ds/LF/LF411QML.pdf; ComponentLink2Description: LF411 Web Page; ComponentLink2URL: http://www.national.com/pf/LF/LF411.html; ComponentLink3Description: WG10A Package Page; ComponentLink3URL: http://www.national.com/packaging/folders/wg10a.html
footprint WG10A_N (CERPACK, 10-Leads, Body 6.9x6.3mm, Pitch 1.27mm, IPC Medium Density)
footprint WG10A_L (CERPACK, 10-Leads, Body 6.9x6.3mm, Pitch 1.27mm, IPC High Density)
footprint WG10A_M (CERPACK, 10-Leads, Body 6.9x6.3mm, Pitch 1.27mm, IPC Low Density)
part A pins: 2 BAL, 3 IN- (in), 4 IN+ (in), 5 V- (power), 6 BAL, 7 OUT (out), 8 V+ (power)
part B pins: 1 NC, 9 NC, 10 NC

## LF412ACN
designator U?
Low Offset, Low Drift Dual JFET Input Operational Amplifier; PartNumber: LF412ACN; Manufacturer: National Semiconductor; CompType: Amplifiers; PackageTopMarking: NSUZXYTT*LF*412ACN; Published: 4-Dec-2008; LatestRevisionDate: 13-Jan-2009; LatestRevisionNote: Sim Model Added.; DatasheetVersion: Aug-2000; PackageVersion: revG, May-2006; PackageReference: N08E; Publisher: Altium Limited; PackageDescription: MDIP, .365 x .250 x .130in, 8 Lead, .100in Pitch; RoHS: O; PinCount: 8; DigiKeyPartNumber: LF412ACN-ND; Code_JEDEC: MS-001-BA; ComponentLink1Description: LF412 Datasheet; ComponentLink1URL: http://www.national.com/ds/LF/LF412.pdf; ComponentLink2Description: LF412 Web Page; ComponentLink2URL: http://www.national.com/pf/LF/LF412.html; ComponentLink3Description: N08E Package Page; ComponentLink3URL: http://www.national.com/packaging/folders/n08e.html
footprint N08E (DIP, 8-Leads, Row Spacing 7.62mm, Pitch 2.54mm, Body 9.91x6.35mm)
simulation model LF412 (SUBCKT)
pins on every part: 4 V- (power), 8 V+ (power)
part A pins: 1 OUTA (out), 2 INA- (in), 3 INA+ (in)
part B pins: 5 INB+ (in), 6 INB- (in), 7 OUTB (out)

## LF412CH
designator U?
Low Offset, Low Drift Dual JFET Input Operational Amplifier; PartNumber: LF412CH; Manufacturer: National Semiconductor; CompType: Amplifiers; PackageTopMarking: NSZXYTTE# LF412CH; Published: 4-Dec-2008; DatasheetVersion: Aug-2000; PackageVersion: revC, Sep-1988; PackageReference: H08A; Publisher: Altium Limited; PackageDescription: 8 Lead, .230in Dia., P.C. Metal Can Package (H); RoHS: Y; PinCount: 8; ComponentLink1Description: LF412 Datasheet; ComponentLink1URL: http://www.national.com/ds/LF/LF412.pdf; ComponentLink2Description: LF412 Web Page; ComponentLink2URL: http://www.national.com/pf/LF/LF412.html; ComponentLink3Description: H08A Package Page; ComponentLink3URL: http://www.national.com/packaging/folders/h08a.html
footprint H08A (Can; 8 Leads; Pin Circle Dia. 5.84 mm; Lead Dia. 0.48 mm (max))
pins on every part: 4 V- (power), 8 V+ (power)
part A pins: 1 OUTA (out), 2 INA- (in), 3 INA+ (in)
part B pins: 5 INB+ (in), 6 INB- (in), 7 OUTB (out)

## LF412CN
designator U?
Low Offset, Low Drift Dual JFET Input Operational Amplifier; PartNumber: LF412CN; Manufacturer: National Semiconductor; CompType: Amplifiers; PackageTopMarking: NSUZXYTT*LF*412CN; Published: 4-Dec-2008; LatestRevisionDate: 13-Jan-2009; LatestRevisionNote: Sim Model Added.; DatasheetVersion: Aug-2000; PackageVersion: revG, May-2006; PackageReference: N08E; Publisher: Altium Limited; PackageDescription: MDIP, .365 x .250 x .130in, 8 Lead, .100in Pitch; RoHS: O; PinCount: 8; DigiKeyPartNumber: LF412CN-ND; Code_JEDEC: MS-001-BA; ComponentLink1Description: LF412 Datasheet; ComponentLink1URL: http://www.national.com/ds/LF/LF412.pdf; ComponentLink2Description: LF412 Web Page; ComponentLink2URL: http://www.national.com/pf/LF/LF412.html; ComponentLink3Description: N08E Package Page; ComponentLink3URL: http://www.national.com/packaging/folders/n08e.html
footprint N08E (DIP, 8-Leads, Row Spacing 7.62mm, Pitch 2.54mm, Body 9.91x6.35mm)
simulation model LF412 (SUBCKT)
pins on every part: 4 V- (power), 8 V+ (power)
part A pins: 1 OUTA (out), 2 INA- (in), 3 INA+ (in)
part B pins: 5 INB+ (in), 6 INB- (in), 7 OUTB (out)

## LF412MH
designator U?
Low Offset, Low Drift Dual JFET Input Operational Amplifier; PartNumber: LF412MH; Manufacturer: National Semiconductor; CompType: Amplifiers; PackageTopMarking: NSZXYTTE# LF412MH; Published: 4-Dec-2008; LatestRevisionDate: 13-Jan-2009; LatestRevisionNote: Sim Model Added.; DatasheetVersion: Aug-2000; PackageVersion: revC, Sep-1988; PackageReference: H08A; Publisher: Altium Limited; PackageDescription: 8 Lead, .230in Dia., P.C. Metal Can Package (H); RoHS: O; PinCount: 8; DigiKeyPartNumber: LF412MH-ND; ComponentLink1Description: LF412 Datasheet; ComponentLink1URL: http://www.national.com/ds/LF/LF412.pdf; ComponentLink2Description: LF412 Web Page; ComponentLink2URL: http://www.national.com/pf/LF/LF412.html; ComponentLink3Description: H08A Package Page; ComponentLink3URL: http://www.national.com/packaging/folders/h08a.html
footprint H08A (Can; 8 Leads; Pin Circle Dia. 5.84 mm; Lead Dia. 0.48 mm (max))
simulation model LF412 (SUBCKT)
pins on every part: 4 V- (power), 8 V+ (power)
part A pins: 1 OUTA (out), 2 INA- (in), 3 INA+ (in)
part B pins: 5 INB+ (in), 6 INB- (in), 7 OUTB (out)

## LF412MH/883
designator U?
Low Offset, Low Drift Dual JFET Input Operational Amplifier; PartNumber: LF412; Manufacturer: National Semiconductor; CompType: Amplifiers; PackageTopMarking: NSZSSXXYYA LF412MH/883 Q; Published: 4-Dec-2008; LatestRevisionDate: 13-Jan-2009; LatestRevisionNote: Sim Model Added.; DatasheetVersion: Aug-2000; PackageVersion: revF, Jun-1995; PackageReference: H08C; Publisher: Altium Limited; PackageDescription: Metal Can, TO-99, 8 Lead, .200 Dia., P.C.; RoHS: N; PinCount: 8; Code_JEDEC: TO-99; ComponentLink1Description: LF412 Datasheet; ComponentLink1URL: http://www.national.com/ds/LF/LF412.pdf; ComponentLink2Description: LF412 Web Page; ComponentLink2URL: http://www.national.com/pf/LF/LF412.html; ComponentLink3Description: H08C Package Page; ComponentLink3URL: http://www.national.com/packaging/folders/h08c.html
footprint H08C (Can; 8 Leads; Pin Circle Dia. 5.08 mm; Lead Dia. 0.48 mm (max))
simulation model LF412 (SUBCKT)
pins on every part: 4 V- (power), 8 V+ (power)
part A pins: 1 OUTA (out), 2 INA- (in), 3 INA+ (in)
part B pins: 5 INB+ (in), 6 INB- (in), 7 OUTB (out)

## LF412MJ/883
designator U?
Low Offset, Low Drift Dual JFET Input Operational Amplifier; PartNumber: LF412MJ/883; Manufacturer: National Semiconductor; CompType: Amplifiers; PackageTopMarking: NSZSSXXYYA*LF412MJ/*883 Q; Published: 4-Dec-2008; LatestRevisionDate: 13-Jan-2009; LatestRevisionNote: Sim Model Added.; DatasheetVersion: Aug-2000; PackageVersion: revM, Jul-2002; PackageReference: J08A; Publisher: Altium Limited; PackageDescription: Cerdip, .400 x .310in Body, 8 Lead, .300in Centers, .100in Pitch; RoHS: N; PinCount: 8; ComponentLink1Description: LF412 Datasheet; ComponentLink1URL: http://www.national.com/ds/LF/LF412.pdf; ComponentLink2Description: LF412 Web Page; ComponentLink2URL: http://www.national.com/pf/LF/LF412.html; ComponentLink3Description: J08A Package Page; ComponentLink3URL: http://www.national.com/packaging/folders/j08a.html
footprint J08A (DIP, 8-Leads, Row Spacing 7.62mm, Pitch 2.54mm, Body 9.78x6.73mm)
simulation model LF412 (SUBCKT)
pins on every part: 4 V- (power), 8 V+ (power)
part A pins: 1 OUTA (out), 2 INA- (in), 3 INA+ (in)
part B pins: 5 INB+ (in), 6 INB- (in), 7 OUTB (out)